# EAGLE library part AD1990/2/4 (library Audio-Power-amlifier V.2.0)
Manufactured after 2006. The AD199x is a two channel Bridge Tied Load (BTL) switching audio power amplifier with integrated ΣΔ modulator. The modulator accepts a 1Vrms input signal (maximum power) and generates a switching waveform to drive speakers directly. One of the two modulators can control both output stages providing twice the current for single-channel applications. A digital, microcontroller-compatible interface provides control of reset, mute and PGA gain as well as output signals for thermal and over-current error conditions. The output stage can operate from supply voltages ranging from 8V to 20V. The analog modulator and digital logic operate from a 5V supply.
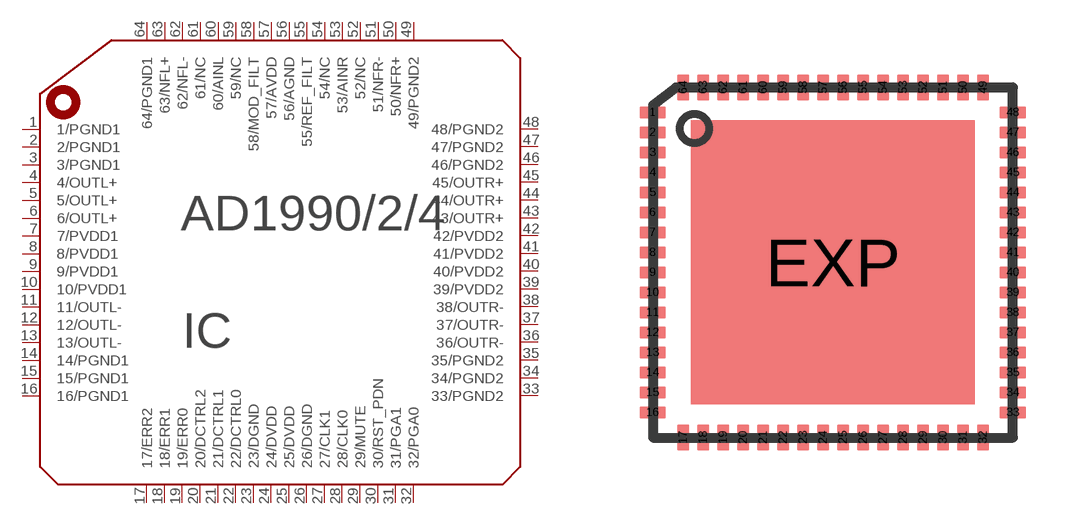
[diagram p152: symbol with the pads of LFCSP64; footprint LFCSP64]

Designator prefix IC

## AD1990/2/4  [LFCSP64]
1  1/PGND1  pwr
2  2/PGND1  pwr
3  3/PGND1  pwr
4  4/OUTL+  out
5  5/OUTL+  out
6  6/OUTL+  out
7  7/PVDD1  pwr
8  8/PVDD1  pwr
9  9/PVDD1  pwr
10  10/PVDD1  pwr
11  11/OUTL-  out
12  12/OUTL-  out
13  13/OUTL-  out
14  14/PGND1  pwr
15  15/PGND1  pwr
16  16/PGND1  pwr
17  17/ERR2  out
18  18/ERR1  out
19  19/ERR0  out
20  20/DCTRL2  in
21  21/DCTRL1  in
22  22/DCTRL0  in
23  23/DGND  pwr
24  24/DVDD  pwr
25  25/DVDD  pwr
26  26/DGND  pwr
27  27/CLK1  in
28  28/CLK0  out
29  29/MUTE  in
30  30/RST_PDN  in
31  31/PGA1  in
32  32/PGA0  in
33  33/PGND2  pwr
34  34/PGND2  pwr
35  35/PGND2  pwr
36  36/OUTR-  out
37  37/OUTR-  out
38  38/OUTR-  out
39  39/PVDD2  pwr
40  40/PVDD2  pwr
41  41/PVDD2  pwr
42  42/PVDD2  pwr
43  43/OUTR+  out
44  44/OUTR+  out
45  45/OUTR+  out
46  46/PGND2  pwr
47  47/PGND2  pwr
48  48/PGND2  pwr
49  49/PGND2  pwr
50  50/NFR+  in
51  51/NFR-  in
52  52/NC  nc
53  53/AINR  in
54  54/NC  nc
55  55/REF_FILT  out
56  56/AGND  pwr
57  57/AVDD  pwr
58  58/MOD_FILT  out
59  59/NC  nc
60  60/AINL  out
61  61/NC  nc
62  62/NFL-  in
63  63/NFL+  in
64  64/PGND1  pwr

## Footprint LFCSP64 (pad centres in mm)
64-Lead Lead Frame Chip Scale Package [LFCSP] CP-64-3 9 x 8,75 mm Body Source: http://www.analog.com/UploadedFiles/Packages/40887351787287CP_64_3.pdf
smd 0.65 x 0.3: 1 -4.515,3.75; 2 -4.515,3.25; 3 -4.515,2.75; 4 -4.515,2.25; 5 -4.515,1.75; 6 -4.515,1.25; 7 -4.515,0.75; 8 -4.515,0.25; 9 -4.515,-0.25; 10 -4.515,-0.75; 11 -4.515,-1.25; 12 -4.515,-1.75; 13 -4.515,-2.25; 14 -4.515,-2.75; 15 -4.515,-3.25; 16 -4.515,-3.75; 33 4.495,-3.75; 34 4.495,-3.25; 35 4.495,-2.75; 36 4.495,-2.25; 37 4.495,-1.75; 38 4.495,-1.25; 39 4.495,-0.75; 40 4.495,-0.25; 41 4.495,0.25; 42 4.495,0.75; 43 4.495,1.25; 44 4.495,1.75; 45 4.495,2.25; 46 4.495,2.75; 47 4.495,3.25; 48 4.495,3.75
smd 0.3 x 0.65: 17 -3.75,-4.375; 18 -3.25,-4.375; 19 -2.75,-4.375; 20 -2.25,-4.375; 21 -1.75,-4.375; 22 -1.25,-4.375; 23 -0.75,-4.375; 24 -0.25,-4.375; 25 0.25,-4.375; 26 0.75,-4.375; 27 1.25,-4.375; 28 1.75,-4.375; 29 2.25,-4.375; 30 2.75,-4.375; 31 3.25,-4.375; 32 3.75,-4.375; 49 3.75,4.375; 50 3.25,4.375; 51 2.75,4.375; 52 2.25,4.375; 53 1.75,4.375; 54 1.25,4.375; 55 0.75,4.375; 56 0.25,4.375; 57 -0.25,4.375; 58 -0.75,4.375; 59 -1.25,4.375; 60 -1.75,4.375; 61 -2.25,4.375; 62 -2.75,4.375; 63 -3.25,4.375; 64 -3.75,4.375
smd 7.1 x 7.1: EXP 0,0